# Altium schematic symbol library Einsy_Rambo_0.4a.SCHLIB: 68 symbols
Pins are listed as number, name and electrical type; pins without a type are passive.

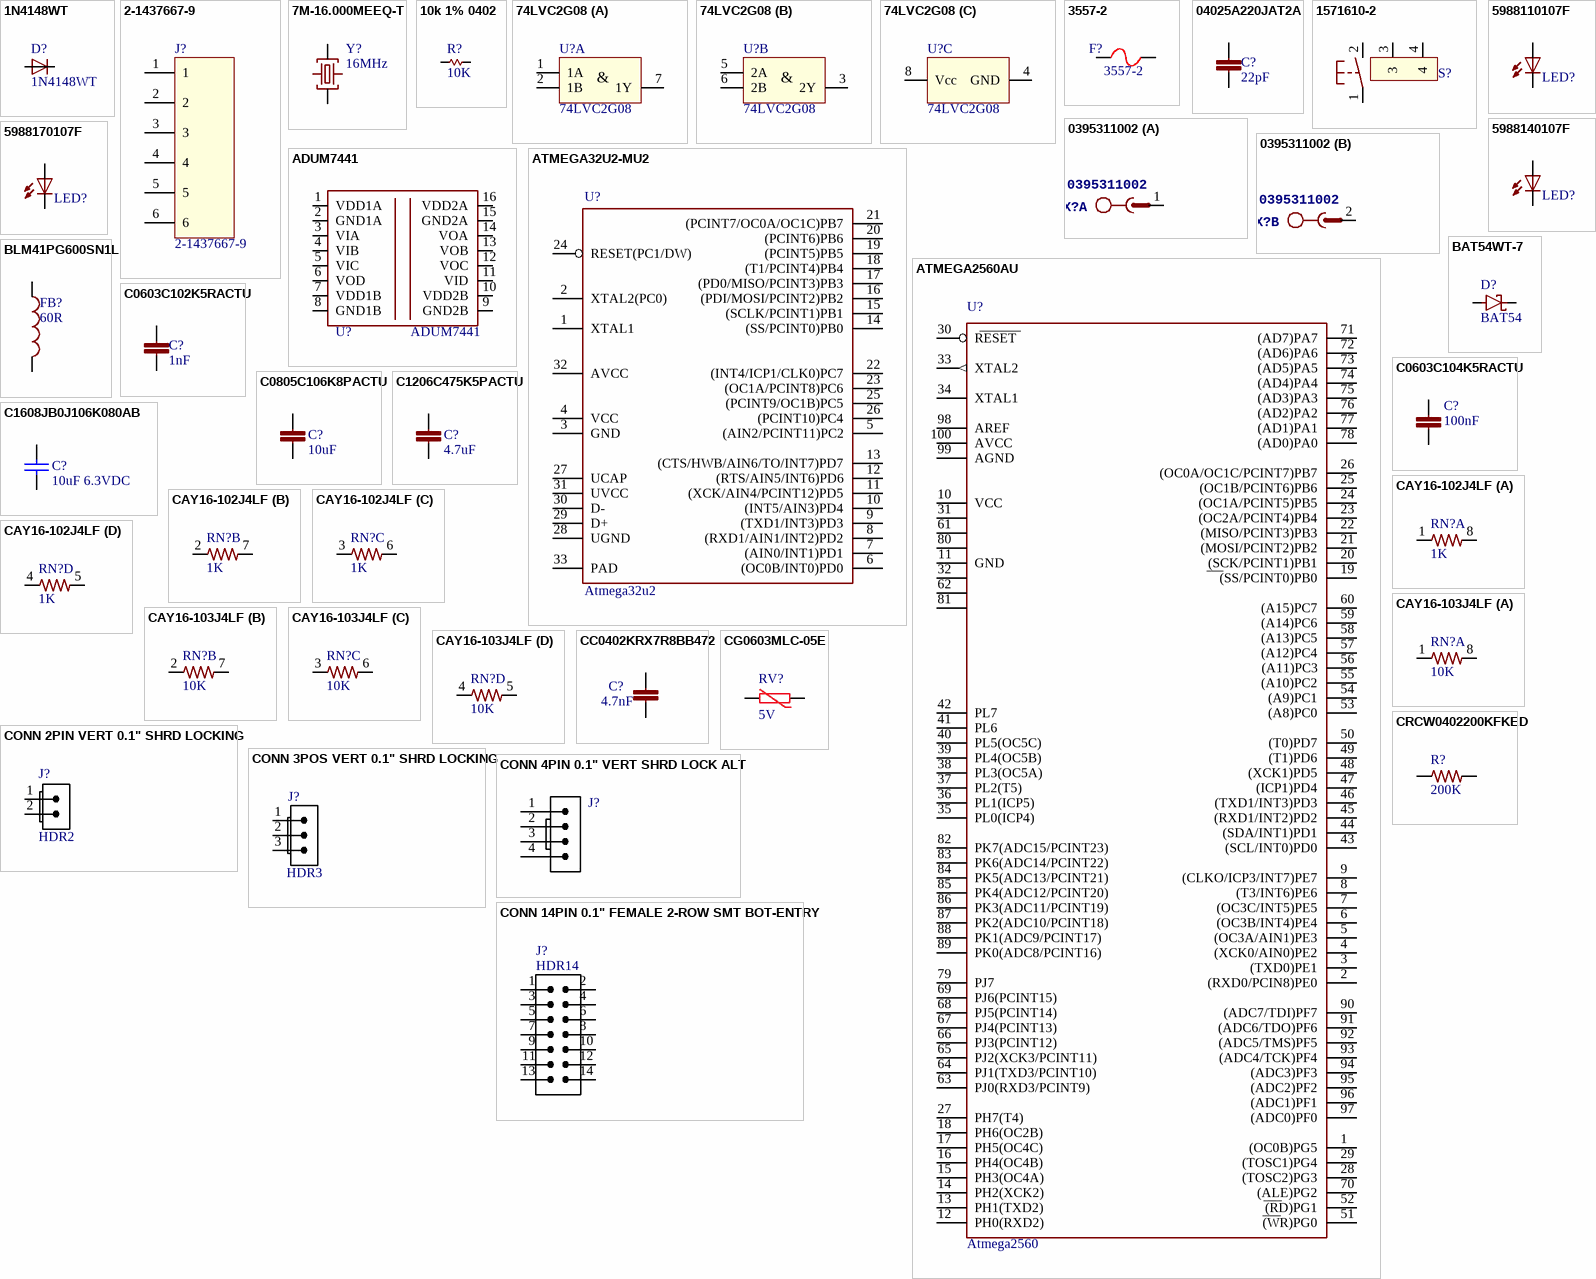
[diagram p0: symbols 1N4148WT to CRCW0402200KFKED]

## 1N4148WT
designator D?
DIODE SOD523; Manufacturer: Fairchild; Part Description: DIODE GEN PURP 75V 200MA SOD523F; EE_SPEC: 75V 0.2A; Tolerance: NA; Value: 1N4148WT; DISTRIBUTOR #: 1N4148WTTR-ND; DISTRIBUTOR: Digi-Key; MANUFACTURER #: 1N4148WT; PART: 1N4148WT
footprint SOD523
pins: A, C

## 2-1437667-9
designator J?
CONN BARRIER STRIP 6CIRC 0.325"; MANUFACTURER #: 4DB-P108-06; Manufacturer: TE; PART: 6POS; Part Description: 6 Circuit 0.325" (8.26mm) Barrier Block Connector, Screws with Captive Plate; EE_SPEC: 150V 2A; Tolerance: NA; VALUE: 6POS; DISTRIBUTOR #: A98476-ND; DISTRIBUTOR: Digi-Key
footprint CON-Barrier-6-8.26mm
pins: 1, 2, 3, 4, 5, 6

## 7M-16.000MEEQ-T
designator Y?  value 16MHz  (hidden comment: 7M-16.000MEEQ-T)
Crystal 16mHz 10ppm 10pF; Manufacturer: TXC; Part Description: CRYSTAL 16.0000MHZ 10PF SMD; EE_SPEC: 10ppm 10pF 80R; MANUFACTURER #: 7M-16.000MEEQ-T; DISTRIBUTOR #: 887-1319-2-ND; DISTRIBUTOR: Digi-Key; PART: 16MHz; Tolerance: 10ppm
footprint CRYS320250
pins: 1 C1, 2 GND, 3 C2, 4 GND

## 10k 1% 0402
designator R?, comment 10K
RES SMD 10K OHM 1% 1/16W 0402; MANUFACTURER: Yageo; MANUFACTURER #: RC0402FR-0710KP; PART: 10k 1% 0402; PART DESCRIPTION: 10k Ohm ±1% 0.063W, 1/16W Chip Resistor 0402 (1005 Metric) Moisture Resistant Thick Film; DISTRIBUTOR #: YAG1249TR-ND; DISTRIBUTOR: Digikey; TOLERANCE: 1%; EE_SPEC: 1/16W; VALUE: 10K
footprint R0402
signal-integrity model Model Name (Model Description)
simulation model Model Name (Model Description)
pins: 1, 2

## 74LVC2G08
designator U?
IC GATE AND 2CH 2-INP 8-VSSOP; MANUFACTURER #: 74LVC2G08DC,125; MANUFACTURER: Nexperia; PART DESCRIPTION: AND Gate IC 2 Channel 8-VSSOP, US8; TOLERANCE: -NA-; EE_SPEC: 1.65-5.5V, 32mA, LVTTL; VALUE: -NA-; DISTRIBUTOR #: 1727-3560-2-ND; DISTRIBUTOR: Digikey; PART: 74LVC2G08
footprint VSSOP8
part A pins: 1 1A, 2 1B, 7 1Y, 23 NC hidden
part B pins: 3 2Y, 5 2A, 6 2B
part C pins: 4 GND, 8 Vcc
part A text: &
part B text: &

## 3557-2
designator F?
FUSE PTH ATO; Manufacturer: Keystone; Part Description: FUSE BLOCK BLADE 500V 30A PCB; EE_SPEC: ATC 500V 30A; Tolerance: NA; MANUFACTURER #: 3557-2; DISTRIBUTOR #: 36-3557-2-ND; DISTRIBUTOR: Digi-Key; PART: Fuse; VALUE: Fuse
footprint 3557
pins: 1, 2

## 04025A220JAT2A
designator C?, comment 22pF
CAP CER 0402 22pF 50V 5% C0G; Manufacturer: AVX; MANUFACTURER #: 04025A220JAT2A; Part Description: 22pF ±5% 50V Ceramic Capacitor C0G, NP0 0402 (1005 Metric); EE_SPEC: 22pF 5% 50V NP0 0402; VALUE: 22pF; DISTRIBUTOR #: 478-1074-2-ND; DISTRIBUTOR: Digi-Key; PART: 22pF 50V; Tolerance: 5%
signal-integrity model Model Name (Model Description)
simulation model Model Name (Model Description)
footprint C0402
pins: 1, 2

## 1571610-2
designator S?  (value not drawn)
SWTCH Momentary Washable; Manufacturer: TE; PART: Tact PB R/A; Part Description: Tactile Switches R/A SEALED TACT SWITCH; EE_SPEC: 24V 0.05A; Tolerance: NA; VALUE: Tact PB R/A; DISTRIBUTOR #: 506-1571610-2; DISTRIBUTOR: Digi-Key; MANUFACTURER #: 1571610-2
footprint B3F-31XX
pins: 1 P, 2 S, 3 (power), 4 (power)

## 0395311002
designator X?
Conn - 5.08mm Pitch Fixed; Manufacturer: Molex; PART: 2POS; Part Description: 2 Position Terminal Block Header, Male Pins, Shrouded (4 Side) 0.200" (5.08mm) Vertical Through Hole; EE_SPEC: 300V 15A 0.2"; Tolerance: NA; Value: 0395311002; DISTRIBUTOR #: WM7837-ND; DISTRIBUTOR: Digi-Key; MANUFACTURER #: 0395311002
footprint MSTBV2
part A pins: 1
part B pins: 2 1

## 5988110107F
designator LED?, comment RED  (value not drawn)
LED 0805 Red; Manufacturer: Dialight; MANUFACTURER #: 5988110107F; Part Description: Red 635nm LED Indication - Discrete 2.2V 0805 (2012 Metric); EE_SPEC: 2.2V 0.02A; Tolerance: NA; VALUE: RED; DISTRIBUTOR #: 350-2038-2-ND; DISTRIBUTOR: Digi-Key; PART: RED
footprint LED2012120
pins: A, C

## 5988140107F
designator LED?, comment YEL  (value not drawn)
LED 0805 Yellow; Manufacturer: Dialight; MANUFACTURER #: 5988140107F; Part Description: Yellow 593nm LED Indication - Discrete 2V 0805 (2012 Metric); EE_SPEC: 2V 0.02A; Tolerance: NA; VALUE: YEL; DISTRIBUTOR #: 350-2041-2-ND; DISTRIBUTOR: Digi-Key; PART: YEL
footprint LED2012120
pins: A, C

## 5988170107F
designator LED?, comment GRN  (value not drawn)
LED 0805 Green; Manufacturer: Dialight; MANUFACTURER #: 5988170107F; Part Description: Green 566nm LED Indication - Discrete 2V 0805 (2012 Metric); EE_SPEC: 2V 0.02A; Tolerance: NA; VALUE: GRN; DISTRIBUTOR #: 350-2044-2-ND; DISTRIBUTOR: Digi-Key; PART: GRN
footprint LED2012120
pins: A, C

## ADUM7441
designator U?
4ch iCoupler; Manufacturer: Analog Devices; MANUFACTURER #: ADUM7441ARQZ-RL7; PART: ADUM7441ARQZ; Part Description: General Purpose Digital Isolator 1000Vrms 4 Channel 1Mbps 15kV/µs CMTI 16-SSOP (0.154", 3.90mm Width); EE_SPEC: 5V 1000Viso; Tolerance: NA; VALUE: ADUM7441ARQZ; DISTRIBUTOR #: ADUM7441ARQZ-RL7TR-ND; DISTRIBUTOR: Digi-Key
footprint QSOP16
pins: 1 VDD1A, 2 GND1A, 3 VIA, 4 VIB, 5 VIC, 6 VOD, 7 VDD1B, 8 GND1B, 9 GND2B, 10 VDD2B, 11 VID, 12 VOC, 13 VOB, 14 VOA, 15 GND2A, 16 VDD2A

## ATMEGA32U2-MU2
designator U?, comment Atmega32u2
Manufacturer: Microchip; MANUFACTURER #: ATMEGA32U2-MUR; Part Description: AVR AVR® ATmega Microcontroller IC 8-Bit 16MHz 32KB (16K x 16) FLASH 32-VQFN (5x5); EE_SPEC: 5V 32KB 1KB; Tolerance: NA; DISTRIBUTOR #: ATMEGA32U2-MURTR-ND; DISTRIBUTOR: Digi-Key; PART: ATMEGA32U2; VALUE: ATMEGA32U2
footprint QFN32_050050
pins: 1 XTAL1, 2 XTAL2(PC0), 3 GND (power), 4 VCC (power), 5 (AIN2/PCINT11)PC2, 6 (OC0B/INT0)PD0, 7 (AIN0/INT1)PD1, 8 (RXD1/AIN1/INT2)PD2, 9 (TXD1/INT3)PD3, 10 (INT5/AIN3)PD4, 11 (XCK/AIN4/PCINT12)PD5, 12 (RTS/AIN5/INT6)PD6, 13 (CTS/HWB/AIN6/TO/INT7)PD7, 14 (SS/PCINT0)PB0, 15 (SCLK/PCINT1)PB1, 16 (PDI/MOSI/PCINT2)PB2, 17 (PD0/MISO/PCINT3)PB3, 18 (T1/PCINT4)PB4, 19 (PCINT5)PB5, 20 (PCINT6)PB6, 21 (PCINT7/OC0A/OC1C)PB7, 22 (INT4/ICP1/CLK0)PC7, 23 (OC1A/PCINT8)PC6, 24 RESET(PC1/DW), 25 (PCINT9/OC1B)PC5, 26 (PCINT10)PC4, 27 UCAP, 28 UGND (power), 29 D+, 30 D-, 31 UVCC (power), 32 AVCC (power), 33 PAD (power)

## ATMEGA2560AU
designator U?, comment Atmega2560
Manufacturer: Microchip; MANUFACTURER #: ATMEGA2560-16AUR; Part Description: AVR AVR® ATmega Microcontroller IC 8-Bit 16MHz 256KB (128K x 16) FLASH 100-TQFP (14x14); EE_SPEC: 5V 256KB 8KB 16MHz; Tolerance: NA; DISTRIBUTOR #: ATMEGA2560-16AURTR-ND; DISTRIBUTOR: Digi-Key; PART: ATMEGA2560; VALUE: ATMEGA2560
footprint TQFP100_140140_012
pins: 1 (OC0B)PG5, 2 (RXD0/PCIN8)PE0, 3 (TXD0)PE1, 4 (XCK0/AIN0)PE2, 5 (OC3A/AIN1)PE3, 6 (OC3B/INT4)PE4, 7 (OC3C/INT5)PE5, 8 (T3/INT6)PE6, 9 (CLKO/ICP3/INT7)PE7, 10 VCC (power), 11 GND (power), 12 PH0(RXD2), 13 PH1(TXD2), 14 PH2(XCK2), 15 PH3(OC4A), 16 PH4(OC4B), 17 PH5(OC4C), 18 PH6(OC2B), 19 (SS/PCINT0)PB0, 20 (SCK/PCINT1)PB1, 21 (MOSI/PCINT2)PB2, 22 (MISO/PCINT3)PB3, 23 (OC2A/PCINT4)PB4, 24 (OC1A/PCINT5)PB5, 25 (OC1B/PCINT6)PB6, 26 (OC0A/OC1C/PCINT7)PB7, 27 PH7(T4), 28 (TOSC2)PG3, 29 (TOSC1)PG4, 30 RESET, 31 VCC1 (power), 32 GND1 (power), 33 XTAL2 (out), 34 XTAL1, 35 PL0(ICP4), 36 PL1(ICP5), 37 PL2(T5), 38 PL3(OC5A), 39 PL4(OC5B), 40 PL5(OC5C), 41 PL6, 42 PL7, 43 (SCL/INT0)PD0, 44 (SDA/INT1)PD1, 45 (RXD1/INT2)PD2, 46 (TXD1/INT3)PD3, 47 (ICP1)PD4, 48 (XCK1)PD5, 49 (T1)PD6, 50 (T0)PD7, 51 (WR)PG0, 52 (RD)PG1, 53 (A8)PC0, 54 (A9)PC1, 55 (A10)PC2, 56 (A11)PC3, 57 (A12)PC4, 58 (A13)PC5, 59 (A14)PC6, 60 (A15)PC7, 61 VCC2 (power), 62 GND2 (power), 63 PJ0(RXD3/PCINT9), 64 PJ1(TXD3/PCINT10), 65 PJ2(XCK3/PCINT11), 66 PJ3(PCINT12), 67 PJ4(PCINT13), 68 PJ5(PCINT14), 69 PJ6(PCINT15), 70 (ALE)PG2, 71 (AD7)PA7, 72 (AD6)PA6, 73 (AD5)PA5, 74 (AD4)PA4, 75 (AD3)PA3, 76 (AD2)PA2, 77 (AD1)PA1, 78 (AD0)PA0, 79 PJ7, 80 VCC3 (power), 81 GND3 (power), 82 PK7(ADC15/PCINT23), 83 PK6(ADC14/PCINT22), 84 PK5(ADC13/PCINT21), 85 PK4(ADC12/PCINT20), 86 PK3(ADC11/PCINT19), 87 PK2(ADC10/PCINT18), 88 PK1(ADC9/PCINT17), 89 PK0(ADC8/PCINT16), 90 (ADC7/TDI)PF7, 91 (ADC6/TDO)PF6, 92 (ADC5/TMS)PF5, 93 (ADC4/TCK)PF4, 94 (ADC3)PF3, 95 (ADC2)PF2, 96 (ADC1)PF1, 97 (ADC0)PF0, 98 AREF, 99 AGND (power), 100 AVCC (power)

## BAT54WT-7
designator D?, comment BAT54
Diode Schottky 30V 100mA Surface Mount SOD-523; Manufacturer: Diodes Incorporated; MANUFACTURER #: BAT54WT-7; EE_SPEC: 30V 0.1A; Tolerance: NA; Value: BAT54; DISTRIBUTOR #: BAT54WT-7DI-ND; DISTRIBUTOR: Digi-Key; PART: BAT54; Part Description: Diode Schottky 30V 100mA Surface Mount SOD-523
footprint SOD523_
footprint SOD523_IPC
pins: A, K

## BLM41PG600SN1L
designator FB?  value 60R  (hidden comment: BLM41PG600SN1L)
FERRITE BEAD 1806 60ohm; Manufacturer: Murata; PART: 60Rf; Part Description: FERRITE BEAD 60 OHM 1806 1LN; EE_SPEC: 60R 6A 0.009Ohm; Tolerance: NA; MANUFACTURER #: BLM41PG600SN1L; DISTRIBUTOR #: 490-1058-2-ND; DISTRIBUTOR: Digi-Key
footprint L1806 (Chip Inductor, 2-Leads, Body 4.50x1.60mm, IPC Medium Density)
pins: 1, 2

## C0603C102K5RACTU
designator C?, comment 1nF
CAP CER 0603  1nF 50v 10% X7R; Manufacturer: Kemet; MANUFACTURER #: C0603C102K5RACTU; Part Description: 1000pF ±10% 50V Ceramic Capacitor X7R 0603 (1608 Metric); EE_SPEC: 1nF 50V X7R 0603; Tolerance: +/- 10%; VALUE: 1nF; DISTRIBUTOR #: 399-1082-2-ND; DISTRIBUTOR: Digi-Key; PART: 1nF
footprint C0603
signal-integrity model Model Name (Model Description)
simulation model Model Name (Model Description)
pins: 1, 2

## C0603C104K5RACTU
designator C?, comment 100nF
CAP CER 0603 100nF 50V 10% X7R; Manufacturer: Kemet; MANUFACTURER #: C0603C104K5RACTU; Part Description: 0.1µF ±10% 50V Ceramic Capacitor X7R 0603 (1608 Metric); EE_SPEC: 100nF 50V X7R 0603; Tolerance: +/- 10%; VALUE: 100nF; DISTRIBUTOR #: 399-5089-2-ND; DISTRIBUTOR: Digi-Key; PART: 100nF
footprint C0603
signal-integrity model Model Name (Model Description)
simulation model Model Name (Model Description)
pins: 1, 2

## C0805C106K8PACTU
designator C?, comment 10uF
CAP CER 0805 10uF 10V 10% X5R; Manufacturer: Kemet; MANUFACTURER #: C0805C106K8PACTU; Part Description: 10µF ±10% 10V Ceramic Capacitor X5R 0805 (2012 Metric); EE_SPEC: 10uF 10V X5R 0805; Tolerance: +/- 10%; VALUE: 10uF; DISTRIBUTOR #: 399-4925-2-ND; DISTRIBUTOR: Digi-Key; PART: 10uF
footprint C0805
signal-integrity model Model Name (Model Description)
simulation model Model Name (Model Description)
pins: 1, 2

## C1206C475K5PACTU
designator C?, comment 4.7uF
CAP CER 1206 4.7uF 50V 10% X5R; Manufacturer: Kemet; MANUFACTURER #: C1206C475K5PACTU; Part Description: 4.7µF ±10% 50V Ceramic Capacitor X5R 1206 (3216 Metric); EE_SPEC: 4.7uF 50V X5R 1206; Tolerance: +/- 10%; VALUE: 4.7uF; DISTRIBUTOR #: 399-5507-2-ND; DISTRIBUTOR: Digi-Key; PART: 4.7uF
signal-integrity model Model Name (Model Description)
simulation model Model Name (Model Description)
footprint C1206
pins: 1, 2

## C1608JB0J106K080AB
designator C?, comment value 10uF 6.3VDC  (hidden comment: 0603)
CAP CER 10UF 6.3V 10% JB 0603; MANUFACTURER #: C1608JB0J106K080AB; Manufacturer: TDK; Tolerance: +/- 10%; EE_SPEC: 6.3VDC; Part Description: CAP CER 10UF 6.3V 10% JB 0603; DISTRIBUTOR #: 445-11185-1-ND; DISTRIBUTOR: Digi-Key; PART: 10uF 6.3VDC
simulation model CAP (Semiconductor Capacitor)
signal-integrity model Cap Semi
footprint C0603
pins: 1, 2

## CAY16-102J4LF
designator RN?, comment 1K
RES ARRAY 4 RES 1K 1206 62.5mW 5%; Manufacturer: Bourns; MANUFACTURER #: CAY16-102J4LF; Part Description: 1k Ohm ±5% 62.5mW Power Per Element Isolated Resistor Network/Array ±200ppm/°C 1206 (3216 Metric), Convex, Long Side Terminals; EE_SPEC: 1k 5% Array_x_4; Tolerance: +/- 5%; VALUE: 1K; DISTRIBUTOR #: CAY16-102J4LFTR-ND; DISTRIBUTOR: Digi-Key; PART: 1K
footprint CAY16
part A pins: 1, 8 2
part B pins: 2 1, 7 2
part C pins: 3 1, 6 2
part D pins: 4 1, 5 2

## CAY16-103J4LF
designator RN?, comment 10K
RES ARRAY 4 RES 10K 1206 62.5mW 5%; Manufacturer: Bourns; MANUFACTURER #: CAY16-103J4LF; Part Description: 10k Ohm ±5% 62.5mW Power Per Element Isolated Resistor Network/Array ±200ppm/°C 1206 (3216 Metric), Convex, Long Side Terminals; EE_SPEC: 10k 5% Array_x_4; Tolerance: +/- 5%; VALUE: 10K; DISTRIBUTOR #: CAY16-103J4LFTR-ND; DISTRIBUTOR: Digi-Key; PART: 10K
footprint CAY16
part A pins: 1, 8 2
part B pins: 2 1, 7 2
part C pins: 3 1, 6 2
part D pins: 4 1, 5 2

## CC0402KRX7R8BB472
designator C?, comment 4.7nF
CAP CER 0402 4.7nF 25V 10% X7R; Manufacturer: YAGEO; MANUFACTURER #: CC0402KRX7R8BB472; Part Description: 4700pF ±10% 25V Ceramic Capacitor X7R 0402 (1005 Metric); EE_SPEC: 4.7nF 25V X7R 0402; Tolerance: +/- 10%; VALUE: 4.7nF; DISTRIBUTOR #: 311-1039-2-ND; DISTRIBUTOR: Digi-Key; PART: 4.7nF
footprint C0402
signal-integrity model Model Name (Model Description)
simulation model Model Name (Model Description)
pins: 1, 2

## CG0603MLC-05E
designator RV?  value 5V  (hidden comment: CG0603MLC-05E)
VAR 0603 5V; Manufacturer: YAGEO; EE_SPEC: 5VDC; Tolerance: NA; MANUFACTURER #: CG0603MLC-05E; DISTRIBUTOR #: CG0603MLC-05ETR-ND; DISTRIBUTOR: Digi-Key; PART: 5VDC; Part Description: VARISTOR 0603
footprint R0603
signal-integrity model Model Name (Model Description)
simulation model Model Name (Model Description)
pins: 1, 2

## CONN 2PIN VERT 0.1" SHRD LOCKING
designator J?  value HDR2  (hidden comment: CONN 2PIN VERT 0.1" SHRD LOCKING)
Connector 2pos; MANUFACTURER: Molex; MANUFACTURER #: 0705430001; PART: 10 Pin Conn; PART DESCRIPTION: 2 Positions Header, Shrouded Connector 0.100" (2.54mm) Through Hole Gold; TOLERANCE: -NA-; DISTRIBUTOR #: WM4800-ND; DISTRIBUTOR: Digi-Key; EE_SPEC: -NA-
footprint 70543-02
pins: 1 S, 2 S

## CONN 3POS VERT 0.1" SHRD LOCKING
designator J?, comment value HDR3  (hidden comment: Molex 70543-03)
3 Positions Header, Shrouded Connector 0.100" (2.54mm) Through Hole Gold; MANUFACTURER #: 0705430002; PART: 3 Pin Conn VERT; TOLERANCE: -NA-; MANUFACTURER: Molex; DISTRIBUTOR #: WM4801-ND; DISTRIBUTOR: Digi-Key; PART DESCRIPTION: 3 Positions Header, Shrouded Connector 0.100" (2.54mm) Through Hole Gold; EE_SPEC: -NA-
footprint 70543-03
pins: 1 S, 2 S, 3 S

## CONN 4PIN 0.1" VERT SHRD LOCK ALT
designator J?, comment Molex 0705430003  (value not drawn)
Molex 4 Pin Clip Connector; MANUFACTURER #: 0705430038; PART: 4 Pin Conn; PART DESCRIPTION: 4 Positions Header, Shrouded Connector 0.100" (2.54mm) Through Hole Tin; TOLERANCE: -NA-; VALUE: HDR4; MANUFACTURER: Molex; DISTRIBUTOR #: WM4826-ND; DISTRIBUTOR: Digi-Key; EE_SPEC: -NA-
footprint 4POL254
pins: 1, 2, 3, 4

## CONN 14PIN 0.1" FEMALE 2-ROW SMT BOT-ENTRY
designator J?, comment HDR14
CONN RCPT DUAL ENTRY 14POS .100"; MANUFACTURER: TE Connectivity; MANUFACTURER #: 969973-7; PART DESCRIPTION: 14 Position Receptacle, Bottom or Top Entry Connector Gold 0.100" (2.54mm) Surface Mount; TOLERANCE: -NA-; DISTRIBUTOR #: A107060CT-ND; DISTRIBUTOR: Digikey; PART: HDR14; EE_SPEC: -NA-; VALUE: HDR14
footprint HDR2x7_SMT_BOT_ENTRY
pins: 1 S, 2 S, 3 S, 4 S, 5 S, 6 S, 7 S, 8 S, 9 S, 10 S, 11 S, 12 S, 13 S, 14 S

## CRCW0402200KFKED
designator R?, comment 200K
RES 0402 200K; Manufacturer: Vishay Dale; MANUFACTURER #: CRCW0402200KFKED; Part Description: 200k Ohm ±1% 0.063W, 1/16W Chip Resistor 0402 (1005 Metric) Automotive AEC-Q200 Thick Film; EE_SPEC: 200k 1% 0402; Tolerance: +/- 1%; VALUE: 200K; DISTRIBUTOR #: 541-200KLTR-ND; DISTRIBUTOR: Digi-Key; PART: 200K
footprint R0402
signal-integrity model Model Name (Model Description)
simulation model Model Name (Model Description)
pins: 1, 2

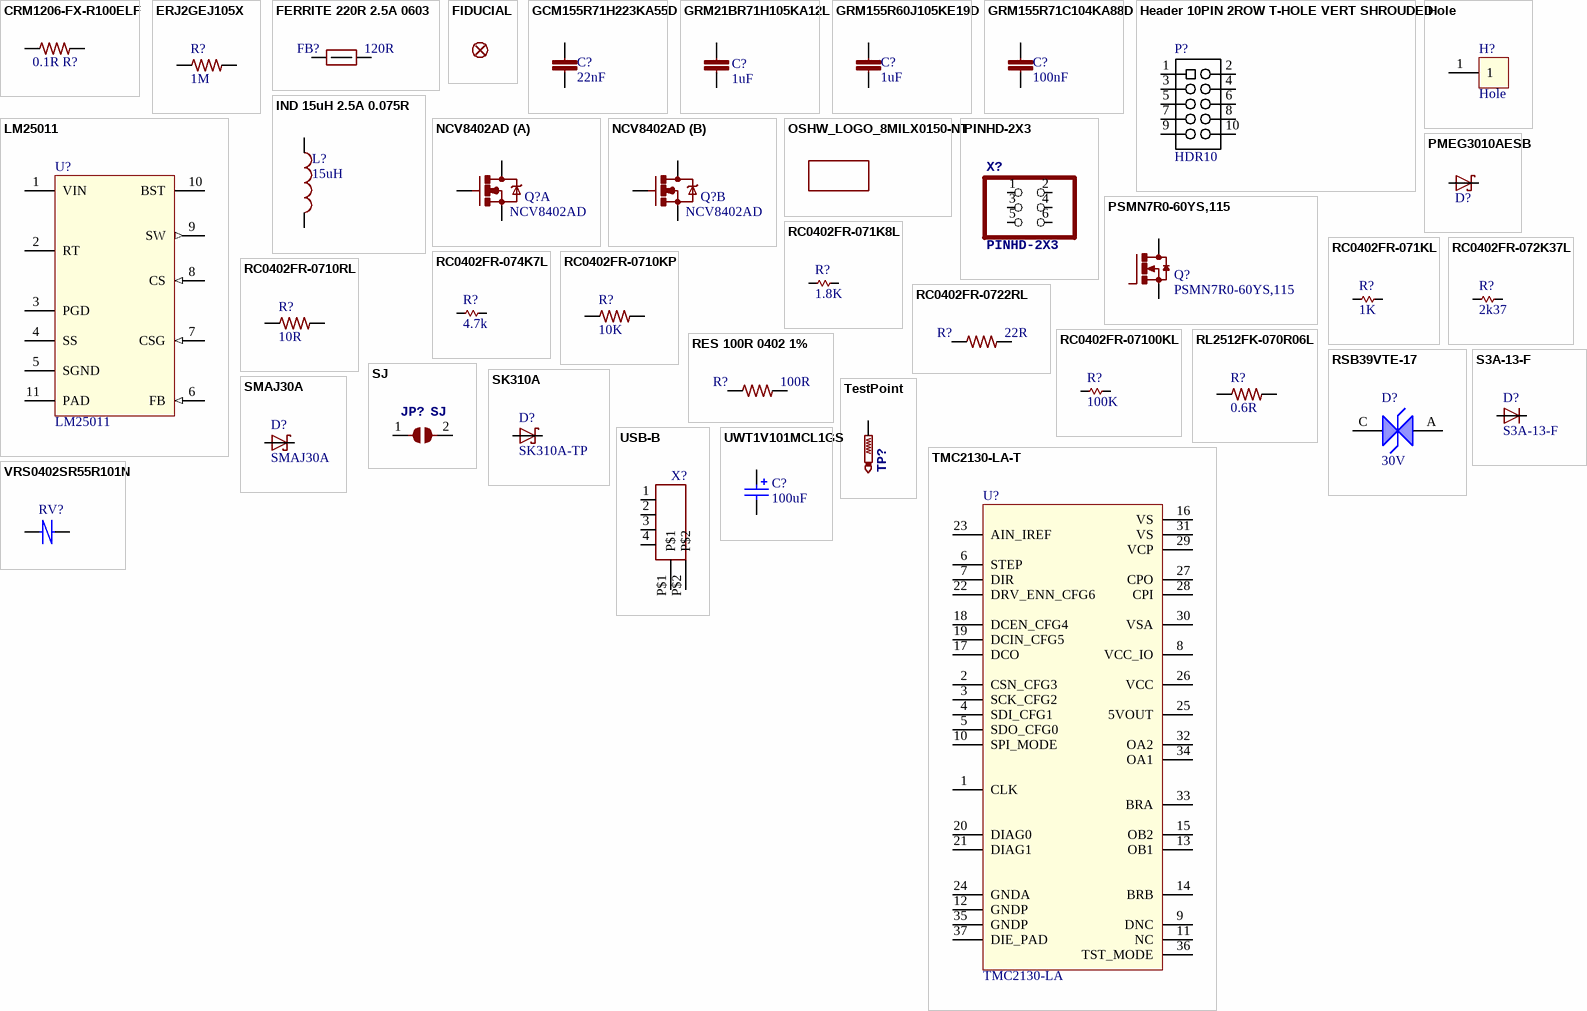
[diagram p1: symbols CRM1206-FX-R100ELF to VRS0402SR55R101N]

## CRM1206-FX-R100ELF
designator R?, comment 0.1R
RES 1206 0.1r 0.5w 1%; Manufacturer: Bourns; MANUFACTURER #: CRM1206-FX-R100ELF; Part Description: 0.1 Ohm ±1% 0.5W, 1/2W Chip Resistor 1206 (3216 Metric) Current Sense Thick Film; EE_SPEC: 0.1R 1% 1206; Tolerance: +/- 1%; VALUE: 0.1R; DISTRIBUTOR #: CRM1206-FX-R100ELFTR-ND; DISTRIBUTOR: Digi-Key; PART: 0.1R
footprint R0402
footprint R0603
footprint R1206
signal-integrity model Model Name (Model Description)
simulation model Model Name (Model Description)
footprint RN2010
pins: 1, 2

## ERJ2GEJ105X
designator R?, comment 1M
RES 0402 1M 100mW 5%; Manufacturer: Panasonic; MANUFACTURER #: ERJ2GEJ105X; Part Description: 1M Ohm ±5% 0.1W, 1/10W Chip Resistor 0402 (1005 Metric) Automotive AEC-Q200 Thick Film; EE_SPEC: 1M 1% 0402; Tolerance: +/- 1%; VALUE: 1M; DISTRIBUTOR #: P1.0MJTR-ND; DISTRIBUTOR: Digi-Key; PART: 1M
footprint R0402
signal-integrity model Model Name (Model Description)
simulation model Model Name (Model Description)
pins: 1, 2

## FERRITE 220R 2.5A 0603
designator FB?, comment 120R
FERRITE BEAD 120 OHM 0603 1LN; MANUFACTURER: Samsung; MANUFACTURER #: CIS10P121AC; PART: FERRITE 120R 3A 0603; VALUE: 120Rfb; TOLERANCE: -NA-; EE_SPEC: 3A; DISTRIBUTOR #: 1276-6351-2-ND; DISTRIBUTOR: Digi-Key; PART DESCRIPTION: FERRITE BEAD 120 OHM 0603 1LN
footprint FB0603 (Ferrite Bead, Samsung CIS10P High Current Series)
pins: 1, 2

## FIDUCIAL
designator FID?  (value not drawn)  (no BOM)
footprint FIDUCIAL-1X2

## GCM155R71H223KA55D
designator C?, comment 22nF
CAP CER 0402 22nF ±10% 50V X7R; Manufacturer: YAGEO; MANUFACTURER #: GCM155R71H223KA55D; Part Description: 0.022µF ±10% 50V Ceramic Capacitor X7R 0402 (1005 Metric); EE_SPEC: 22nF 50V X7R 0402; Tolerance: +/- 10%; VALUE: 22nF; DISTRIBUTOR #: 490-4763-2-ND; DISTRIBUTOR: Digi-Key; PART: 22nF
footprint C0402
signal-integrity model Model Name (Model Description)
simulation model Model Name (Model Description)
pins: 1, 2

## GRM21BR71H105KA12L
designator C?, comment 1uF
CAP CER 0805 1uF 50V 10% X7R; Manufacturer: Murata; MANUFACTURER #: GRM21BR71H105KA12L; Part Description: 1µF ±10% 50V Ceramic Capacitor X7R 0805 (2012 Metric); EE_SPEC: 1uF 50V X7R 0805; Tolerance: +/- 10%; VALUE: 1uF; DISTRIBUTOR #: 490-4736-2-ND; DISTRIBUTOR: Digi-Key; PART: 1uF
footprint C0805
signal-integrity model Model Name (Model Description)
simulation model Model Name (Model Description)
pins: 1, 2

## GRM155R60J105KE19D
designator C?, comment 1uF
CAP CER 0402 1uF 6.3V 10% X5R; Manufacturer: Murata; MANUFACTURER #: GRM155R60J105KE19D; Part Description: 1µF ±10% 6.3V Ceramic Capacitor X5R 0402 (1005 Metric); EE_SPEC: 1uF 6.3V X5R 0402; Tolerance: +/- 10%; VALUE: 1uF; DISTRIBUTOR #: 490-1320-2-ND; DISTRIBUTOR: Digi-Key; PART: 1uF
footprint C0402
signal-integrity model Model Name (Model Description)
simulation model Model Name (Model Description)
pins: 1, 2

## GRM155R71C104KA88D
designator C?, comment 100nF
CAP CER 0402 100nF 16V 10% X7R; Manufacturer: Murata; MANUFACTURER #: GRM155R71C104KA88D; Part Description: 0.10µF ±10% 16V Ceramic Capacitor X7R 0402 (1005 Metric); EE_SPEC: 100nF 16V X7R 0402; Tolerance: +/- 10%; VALUE: 100nF; DISTRIBUTOR #: 490-3261-2-ND; DISTRIBUTOR: Digi-Key; PART: 100nF
footprint C0402
signal-integrity model Model Name (Model Description)
simulation model Model Name (Model Description)
pins: 1, 2

## Header 10PIN 2ROW T-HOLE VERT SHROUDED
designator P?, comment HDR10
CONN HEADER VERT 10POS GOLD; MANUFACTURER #: 302-S101; MANUFACTURER: On Shore; PART DESCRIPTION: 10 Positions Header Connector 0.100" (2.54mm) Through Hole Gold; TOLERANCE: -NA-; DISTRIBUTOR #: ED1543-ND; DISTRIBUTOR: Digikey; PART: HDR10; VALUE: HDR10; EE_SPEC: -NA-
footprint HDR2X5 IDC (Connector; Header; 5x2 Position)
pins: 1, 2, 3, 4, 5, 6, 7, 8, 9, 10

## Hole
designator H?  (no BOM)
footprint Wave_hole_3x7-singleSided
pins: 1 (power)

## IND 15uH 2.5A 0.075R
designator L?, comment 15uH
FIXED IND 15UH 2.5A 98 MOHM SMD; Manufacturer: TDK; MANUFACTURER #: VLS6045EX-150M; Part Description: 15µH Shielded Wirewound Inductor 2.5A 98 mOhm Max Nonstandard; EE_SPEC: 15uH 2.5A 0.098-Ohm; Tolerance: +/- 20%; ManufacturerPartNumber2: XAL5050-153MEB; Value: 15uH; Manufacturer2: Coilcraft; DISTRIBUTOR #: 445-173041-2-ND; DISTRIBUTOR: Digi-Key; PART: 15uH
footprint XAL50xx_VLS6045 (Precision Wire Wound Inductor, 2-Leads, Body 5.28x5.48mm, IPC High Density)
pins: 1, 2

## LM25011
designator U?
REG BUCK; MANUFACTURER #: LM25011MY/NOPB; Manufacturer: TI; Part Description: Buck Switching Regulator IC Positive Adjustable 2.51V 1 Output 2A 10-TFSOP, 10-MSOP (0.118", 3.00mm Width) Exposed Pad; EE_SPEC: 42Vmax 2A 2MHz; Tolerance: NA; Value: LM25011; DISTRIBUTOR #: LM25011MY/NOPBTR-ND; DISTRIBUTOR: Digi-Key; PART: LM25011
footprint VSSOP10 (TSSOP, 10-Leads, Body 3.15x3.00mm, Pitch 0.50mm, Thermal Pad 2.05.2x1.50.2mm, IPC High Density)
pins: 1 VIN (power), 2 RT (power), 3 PGD (power), 4 SS (power), 5 SGND (power), 6 FB (in), 7 CSG (in), 8 CS (in), 9 SW (out), 10 BST (power), 11 PAD (power)

## NCV8402AD
designator Q?
IC DVR LOW SIDE 8-SOIC; MANUFACTURER #: NCV8402ADDR2G; Manufacturer: On Semi; EE_SPEC: 42Vmaz 2A 0.165-Ohm; Tolerance: NA; DISTRIBUTOR #: NCV8402ADDR2GOSTR-ND; DISTRIBUTOR: Digi-Key; PART: NCV8402; Part Description: IC DVR LOW SIDE 8-SOIC; VALUE: NCV8402
footprint NCV8402AD-SOIC8
part A pins: 1 S, 2 G, 7 D
part B pins: 3 S, 4 G, 5 D

## OSHW_LOGO_8MILX0150-NT
designator LOGO?  (value not drawn)  (no BOM)
footprint OSHW_8X150_NOTEXT

## PINHD-2X3
designator X?
CONN HEADER VERT 6POS GOLD; Manufacturer: MultiComp; MANUFACTURER #: 2213S-06G; PART: 6PIN; Part Description: 6 Positions Header Connector 0.100" (2.54mm) Through Hole Gold; EE_SPEC: 10Pin 2Row 0.1" T-Hole; Tolerance: NA; VALUE: 6PIN; DISTRIBUTOR #: 08N6789; DISTRIBUTOR: Newark
footprint 2X03
pins: 1, 2, 3, 4, 5, 6

## PMEG3010AESB
designator D?  (value not drawn)
30 V, 1 A low VF MEGA Schottky barrier rectifier; Manufacturer: Nexperia; MANUFACTURER #: PMEG3010AESBYL; Part Description: Diode Schottky 30V 1A Surface Mount DSN1006-2; EE_SPEC: 30V 1A 0.48Vf; Tolerance: NA; DISTRIBUTOR #: 1727-2401-2-ND; DISTRIBUTOR: Digi-Key; PART: PMEG3010; VALUE: PMEG3010
footprint SOD993-DFN3127P600-8N (DSN1006-2 (SOD993))
pins: A, C

## PSMN7R0-60YS,115
designator Q?
Mosfet N-channel 60V 356A 117W 9.3mOhms; Manufacturer: Nexperia; Part Description: N-Channel 60V 89A (Tc) 117W (Tc) Surface Mount LFPAK56, Power-SO8; EE_SPEC: 60V 89A N-CHAN; Tolerance: NA; MANUFACTURER #: PSMN7R0-60YS,115; DISTRIBUTOR #: 1727-4635-2-ND; DISTRIBUTOR: Digi-Key; PART: PSMN7R0-60; VALUE: PSMN7R0-60
footprint SOT669
pins: 1 S, 2 S, 3 S, 4 G, MB D

## RC0402FR-071K8L
designator R?, comment 1.8K
RES SMD 1.8K OHM 1% 1/16W 0402; Manufacturer: Yageo; MANUFACTURER #: RC0402FR-071K8L; Part Description: 1.8k Ohm ±1% 0.063W, 1/16W Chip Resistor 0402 (1005 Metric) Moisture Resistant Thick Film; EE_SPEC: 1.8k 1% 0402; Tolerance: +/- 1%; VALUE: 1.8K; DISTRIBUTOR #: 311-1.80KLRTR-ND; DISTRIBUTOR: Digi-Key; PART: 1.8k
footprint R0402
pins: 1, 2

## RC0402FR-071KL
designator R?, comment 1K
RES SMD 1K OHM 1% 1/16W 0402; Manufacturer: Yageo; MANUFACTURER #: RC0402FR-071KL; Part Description: 1k Ohm ±1% 0.063W, 1/16W Chip Resistor 0402 (1005 Metric) Moisture Resistant Thick Film; EE_SPEC: 1k 1% 0402; Tolerance: +/- 1%; VALUE: 1K; DISTRIBUTOR #: 311-1.00KLRTR-ND; DISTRIBUTOR: Digi-Key; PART: 1k
footprint R0402
pins: 1, 2

## RC0402FR-072K37L
designator R?, comment 2k37
RES SMD 2.37K OHM 1% 1/16W 0402; Manufacturer: Yageo; MANUFACTURER #: RC0402FR-072K37L; Part Description: 2.37k Ohm ±1% 0.063W, 1/16W Chip Resistor 0402 (1005 Metric) Moisture Resistant Thick Film; EE_SPEC: 2.37k 1% 0402; Tolerance: +/- 1%; VALUE: 2k37; DISTRIBUTOR #: 311-2.37KLRTR-ND; DISTRIBUTOR: Digi-Key; PART: 2.37k
footprint R0402
pins: 1, 2

## RC0402FR-074K7L
designator R?, comment 4.7k
RES SMD 4.7K OHM 1% 1/16W 0402; Manufacturer: Yageo; MANUFACTURER #: RC0402FR-074K7L; Part Description: 4.7k Ohm ±1% 0.063W, 1/16W Chip Resistor 0402 (1005 Metric) Moisture Resistant Thick Film; EE_SPEC: 4.7k 1% 0402; Tolerance: +/- 1%; VALUE: 4.7k; DISTRIBUTOR #: 311-4.7KLRTR-ND; DISTRIBUTOR: Digi-Key; PART: 4.7k
footprint R0402
pins: 1, 2

## RC0402FR-0710KP
designator R?, comment 10K
RES SMD 10K OHM 1% 1/16W 0402; MANUFACTURER: Yageo; MANUFACTURER #: RC0402FR-0710KP; PART: 10k 1% 0402; PART DESCRIPTION: 10k Ohm ±1% 0.063W, 1/16W Chip Resistor 0402 (1005 Metric) Moisture Resistant Thick Film; VALUE: 10K; DISTRIBUTOR #: YAG1249TR-ND; DISTRIBUTOR: Digi-Key; TOLERANCE: 1%; EE_SPEC: 10k 1% 0402
footprint R0402
signal-integrity model Model Name (Model Description)
simulation model Model Name (Model Description)
pins: 1, 2

## RC0402FR-0710RL
designator R?, comment 10R
RES SMD 10 OHM 1% 1/16W 0402; Manufacturer: Yageo; MANUFACTURER #: RC0402FR-0710RL; Part Description: 10 Ohm ±1% 0.063W, 1/16W Chip Resistor 0402 (1005 Metric) Moisture Resistant Thick Film; EE_SPEC: 10R 1% 0402; Tolerance: +/- 1%; VALUE: 10R; DISTRIBUTOR #: 311-10.0LRTR-ND; DISTRIBUTOR: Digi-Key; PART: 10R
footprint R0402
signal-integrity model Model Name (Model Description)
simulation model Model Name (Model Description)
pins: 1, 2

## RC0402FR-0722RL
designator R?, comment 22R
RES 0402 22r 62.5mW 1%; Manufacturer: Yageo; MANUFACTURER #: RC0402FR-0722RL; Part Description: 22 Ohm ±1% 0.063W, 1/16W Chip Resistor 0402 (1005 Metric) Moisture Resistant Thick Film; EE_SPEC: 22R 1% 0402; Tolerance: +/- 1%; VALUE: 22R; DISTRIBUTOR #: 311-22.0LRTR-ND; DISTRIBUTOR: Digi-Key; PART: 22R
footprint R0402
footprint R0603
footprint R1206
signal-integrity model Model Name (Model Description)
simulation model Model Name (Model Description)
footprint RN2010
pins: 1, 2

## RC0402FR-07100KL
designator R?, comment 100K
RES 100K OHM 1% 1/16W 0402; Manufacturer: Yageo; MANUFACTURER #: RC0402FR-07100KL; Part Description: 100k Ohm ±1% 0.063W, 1/16W Chip Resistor 0402 (1005 Metric) Moisture Resistant Thick Film; EE_SPEC: 100K 1% 0402; Tolerance: +/- 1%; VALUE: 100K; DISTRIBUTOR #: 311-100KLRTR-ND; DISTRIBUTOR: Digi-Key; PART: 100K
footprint R0402
signal-integrity model Model Name (Model Description)
simulation model Model Name (Model Description)
pins: 1, 2

## RES 100R 0402 1%
designator R?, comment 100R
RES SMD 100 OHM 1% 1/16W 0402; MANUFACTURER: Yageo; MANUFACTURER #: RC0402FR-07100RL; PART: 100R 1% 0402; PART DESCRIPTION: 100 Ohm ±1% 0.063W, 1/16W Chip Resistor 0402 (1005 Metric) Moisture Resistant Thick Film; VALUE: 100R; DISTRIBUTOR #: 311-100LRTR-ND; DISTRIBUTOR: Digi-Key; TOLERANCE: 1%; EE_SPEC: 100R 1% 0402
footprint R0402
pins: 1, 2

## RL2512FK-070R06L
designator R?, comment 0.6R
RES 0.06 OHM 1W 1% 2512 SMD; Manufacturer: Yageo; MANUFACTURER #: RL2512FK-070R06L; Part Description: 0.06 Ohm ±1% 1W Chip Resistor 2512 (6432 Metric) Automotive AEC-Q200, Current Sense, Moisture Resistant Thick Film; EE_SPEC: 0.06R 1% 2512; VALUE: 0.6R; DISTRIBUTOR #: 311-0.06TTR-ND; DISTRIBUTOR: Digi-Key; PART: 0.6R; Tolerance: 1%
signal-integrity model Model Name (Model Description)
simulation model Model Name (Model Description)
footprint 2512R-0.55 (2512 Resistor 6.35mm x 3.2mm x 0.55mm)
pins: 1, 2

## RSB39VTE-17
designator D?  value 30V  (hidden comment: RSB39VTE-17)
DIODE TVS; Manufacturer: Rohm; Part Description: TVS DIODE 30VWM SOD323; EE_SPEC: 30Vrs 35.1Vbd 30pF; Tolerance: NA; MANUFACTURER #: RSB39VTE-17; DISTRIBUTOR #: RSB39VTE-17TR-ND; DISTRIBUTOR: Digi-Key; PART: 30V
footprint SOD323-R
pins: A (power), C (power)

## S3A-13-F
designator D?
DIODE DO-214AB; Manufacturer: Diodes Incorporated; Part Description: Diode Standard 50V 3A Surface Mount SMC; EE_SPEC: 50V 3A 1.15Vf; Tolerance: NA; Value: S3A-13-F; DISTRIBUTOR #: S3A-FDITR-ND; DISTRIBUTOR: Digi-Key; MANUFACTURER #: S3A-13-F; PART: S3A-13-F
footprint DO-214AB
pins: A, C

## SJ
designator JP?  (no BOM)
SMD solder jumper
footprint SJ
pins: 1, 2

## SK310A
designator D?, comment SK310A-TP
DIODE Schottky 3A SMA; Manufacturer: MCC; MANUFACTURER #: SK310A-LTP; PART: SK310A; Part Description: Diode Schottky 100V 3A Surface Mount DO-214AC (SMA); EE_SPEC: 3A 100V; Tolerance: NA; VALUE: SK310A; DISTRIBUTOR #: SK310A-LTPMSTR-ND; DISTRIBUTOR: Digi-Key
footprint SMA-SM
pins: A, C

## SMAJ30A
designator D?
DIODE TVS 30V SMA; Manufacturer: Littelfuse; Part Description: TVS DIODE 30VWM 48.4VC SMA; EE_SPEC: 30Vrs 48.4Vc; Tolerance: NA; MANUFACTURER #: SMAJ30A; DISTRIBUTOR #: SMAJ30ALFTR-ND; DISTRIBUTOR: Digi-Key; PART: SMAJ30A; VALUE: SMAJ30A
footprint SMA-SM
pins: A, C

## TestPoint
designator TP?  (value not drawn)  (no BOM)
Test Point
footprint TP1-27TH
footprint TP1-27
pins: TP

## TMC2130-LA-T
designator U?, comment TMC2130-LA
IC STEPPER MOTOR DVR SPI 36QFN; MANUFACTURER #: TMC2130-LA-T; Manufacturer: Trinamic; Part Description: Bipolar Motor Driver Power MOSFET SPI, Step/Direction 36-QFN (5x6); EE_SPEC: 46V 1.2A 1/256 Step; Tolerance: NA; DISTRIBUTOR #: 1460-1130-2-ND; DISTRIBUTOR: Digi-Key; PART: TMC2130; VALUE: TMC2130
footprint QFN36-50P500X600X900_HS-37N (QFN, 36-Leads, Body 5.00x6.00mm, Pitch 0.50mm, Thermal Pad 3.60x4.10mm, IPC Medium Density)
pins: 1 CLK, 2 CSN_CFG3, 3 SCK_CFG2, 4 SDI_CFG1, 5 SDO_CFG0, 6 STEP, 7 DIR, 8 VCC_IO, 9 DNC, 10 SPI_MODE, 11 NC, 12 GNDP, 13 OB1, 14 BRB, 15 OB2, 16 VS, 17 DCO, 18 DCEN_CFG4, 19 DCIN_CFG5, 20 DIAG0, 21 DIAG1, 22 DRV_ENN_CFG6, 23 AIN_IREF, 24 GNDA, 25 5VOUT, 26 VCC, 27 CPO, 28 CPI, 29 VCP, 30 VSA, 31 VS, 32 OA2, 33 BRA, 34 OA1, 35 GNDP, 36 TST_MODE, 37 DIE_PAD

## USB-B
designator X?  (value not drawn)
USB connector B PTH; Manufacturer: FCI; MANUFACTURER #: 61729-0010BLF; Part Description: USB - B USB 2.0 Receptacle Connector 4 Position Through Hole, Right Angle; EE_SPEC: USB-B T-Hole R/A; Tolerance: NA; DISTRIBUTOR #: 609-1039-ND; DISTRIBUTOR: Digi-Key; PART: USB-B; VALUE: USB-B
footprint PN61729
pins: 1, 2, 3, 4, P$1, P$2

## UWT1V101MCL1GS
designator C?  value 100uF  (hidden comment: UWT1V101MCL1GS)
CAP ALUM 100UF 35V 20% SMD; Manufacturer: Nichicon; Part Description: 100µF 35V Aluminum Capacitors Radial, Can - SMD 1000 Hrs @ 105°C; EE_SPEC: 100uF 35V Al-El; Tolerance: +/- 20%; MANUFACTURER #: UWT1V101MCL1GS; DISTRIBUTOR #: 493-2203-2-ND; DISTRIBUTOR: Digi-Key; PART: 100uF
simulation model CAP (Capacitor)
signal-integrity model Cap Pol
footprint CAP-ELEC-063063077 (6.3x6.3x7.7mm)
pins: 1, 2
1 alternate drawing of the same symbol

## VRS0402SR55R101N
designator RV?  (value not drawn)
Multi-Layer Varistor; Manufacturer: Yageo; Part Description: VARISTOR 12V 10A 0402; Value: 12V; EE_SPEC: 5.5Vdc 12Vvar 60pF; Tolerance: NA; DISTRIBUTOR #: 311-1516-2-ND; DISTRIBUTOR: Digi-Key; MANUFACTURER #: VRS0402SR55R101N; PART: 12V
footprint C0402
pins: 1, 2